# EAGLE library part 2X05 (library Jordi)
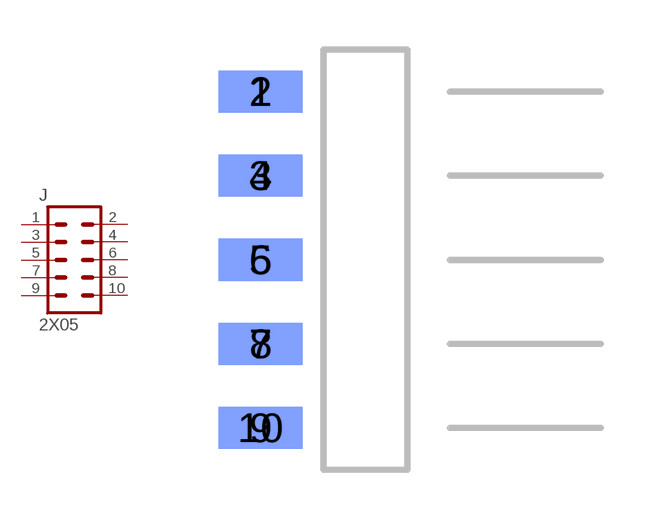
[diagram p31: symbol with the pads of M-2X05-0.1-EDGE; footprint M-2X05-0.1-EDGE]

Designator prefix J

## 2X05M-0.1-EDGE  [M-2X05-0.1-EDGE]
1  1  pas
2  2  pas
3  3  pas
4  4  pas
5  5  pas
6  6  pas
7  7  pas
8  8  pas
9  9  pas
10  10  pas

## Footprint M-2X05-0.1-EDGE (pad centres in mm)
smd 2.54 x 1.27: 1 0,5.08; 3 0,2.54; 5 0,0; 7 0,-2.54; 9 0,-5.08
smd 2.54 x 1.27 bottom: 2 0,5.08; 4 0,2.54; 6 0,0; 8 0,-2.54; 10 0,-5.08